# Altium schematic symbol library LED_AVAG-HSMX-C190.SchLib: 1 symbol
Pins are listed as number, name and electrical type; pins without a type are passive.

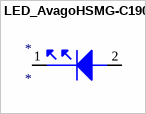
[diagram p0: symbol LED_AvagoHSMG-C190]

## LED_AvagoHSMG-C190
designator *
footprint AVAG-HSMX-C190
pins: 1, 2